# Altium footprint library 液晶_数码管 - 副本.PcbLib: 7 footprints
Each footprint in its own frame and in the unit in brackets; x right, y up, seen from the top. Pads: shape width x height; smd on the part's side, far side on the other; paste and mask are expansions set on the pad; w line width, h text height; cw(c..) or ccw(c..) is an arc to the next point about the centre after c.
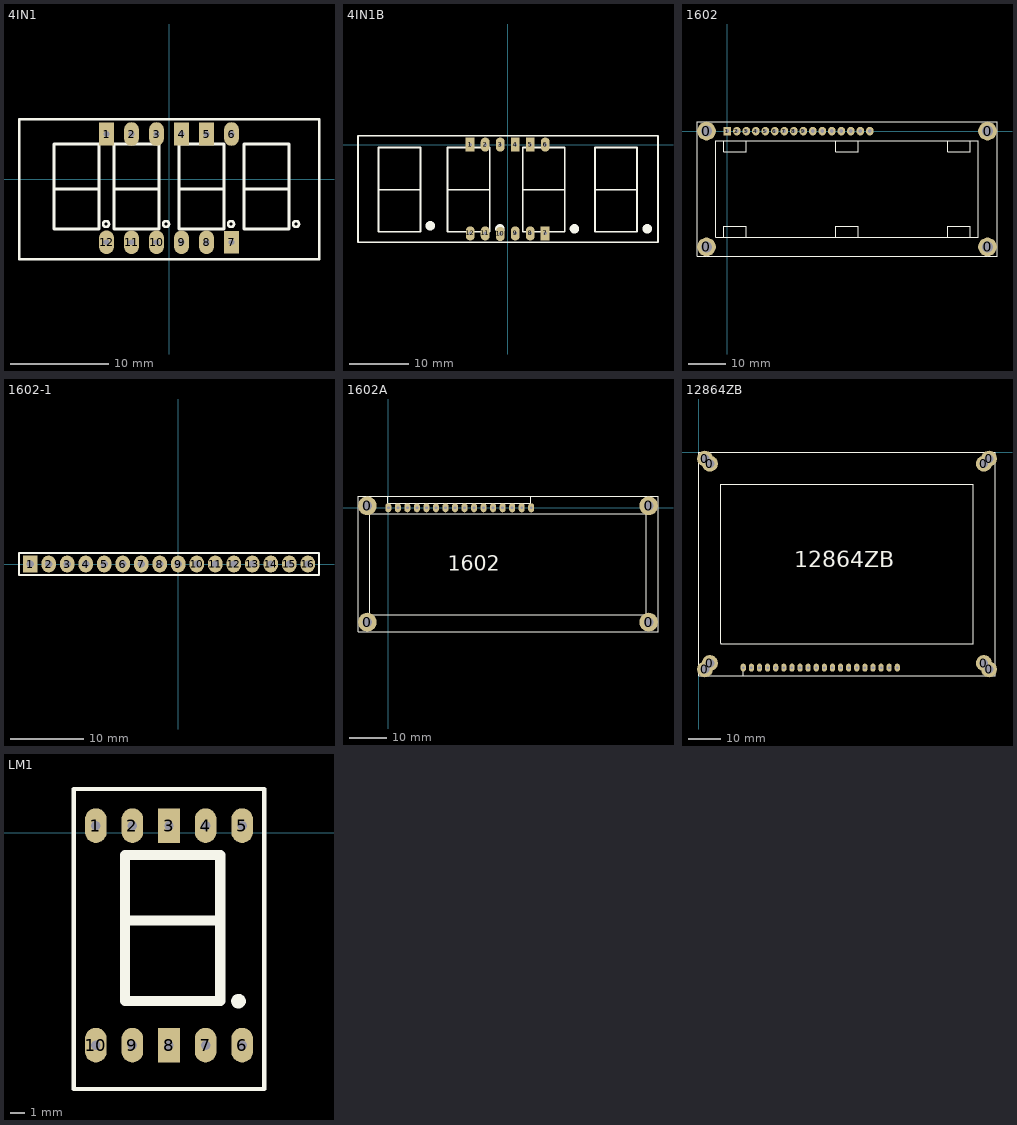
[diagram p0: the footprints below, top view; thin cyan lines are the x and y axes]

## 4IN1 [mm]
pads (12):
  rect 1.5x2.3 hole 0.6: 1(-6.35,4.572) 4(1.27,4.572) 5(3.81,4.572) 7(6.35,-6.428)
  oval 1.5x2.4 hole 0.6: 2(-3.81,4.572) 3(-1.27,4.572) 6(6.35,4.572) 8(3.81,-6.428) 9(1.27,-6.428) 10(-1.27,-6.428) 11(-3.81,-6.428) 12(-6.35,-6.428)
Top Overlay:
  circle w0.254: c12.908,-4.572 r0.3
  circle w0.254: c6.304,-4.572 r0.3
  circle w0.254: c-0.3,-4.572 r0.3
  circle w0.254: c-6.396,-4.572 r0.3
  lines w0.254: -15.24,-8.128 -15.24,6.096 0,6.096 15.24,6.096 15.24,-8.128 -15.24,-8.128
  lines w0.3: -11.684,-1.016 -7.112,-1.016 ; -5.588,-1.016 -1.016,-1.016 ; 1.016,-1.016 5.588,-1.016 ; 7.62,-1.016 12.192,-1.016 ; -11.684,-5.08 -7.112,-5.08 -7.112,3.556 -11.684,3.556 -11.684,-5.08 ; -5.588,-5.08 -1.016,-5.08 -1.016,3.556 -5.588,3.556 -5.588,-5.08 ; 1.016,-5.08 5.588,-5.08 5.588,3.556 1.016,3.556 1.016,-5.08 ; 7.62,-5.08 12.192,-5.08 12.192,3.556 7.62,3.556 7.62,-5.08

## 4IN1B [mm]
pads (12):
  rect 1.5x2.4 hole 0.6: 1(-6.35,0) 4(1.27,0) 5(3.81,0) 7(6.33,-15)
  oval 1.5x2.4 hole 0.6: 2(-3.81,0) 3(-1.27,0) 6(6.35,0) 8(3.81,-15) 9(1.27,-15) 10(-1.27,-15.1) 11(-3.81,-15) 12(-6.33,-15)
Top Overlay:
  circle w0.8: c11.284,-14.224 r0.4
  circle w0.8: c-13.1,-13.716 r0.4
  circle w0.8: c-1.316,-14.224 r0.4
  circle w0.8: c23.576,-14.224 r0.4
  lines w0.254: -25.3,1.475 -25.3,-16.5 25.4,-16.5 25.4,1.5 -25.3,1.5
  lines w0.3: -21.844,-7.62 -14.732,-7.62 ; -10.16,-7.62 -3.048,-7.62 ; 2.54,-7.62 9.652,-7.62 ; 14.732,-7.62 21.844,-7.62 ; -21.844,-14.732 -21.844,-0.508 -14.732,-0.508 -14.732,-14.732 -21.844,-14.732 ; -10.16,-14.732 -10.16,-0.508 -3.048,-0.508 -3.048,-14.732 -10.16,-14.732 ; 2.54,-14.732 2.54,-0.508 9.652,-0.508 9.652,-14.732 2.54,-14.732 ; 14.732,-14.732 14.732,-0.508 21.844,-0.508 21.844,-14.732 14.732,-14.732

## 1602 [mm]
pads (20):
  round 5 hole 3: 0(-5.588,-30.988) 0(-5.588,0) 0(69.596,-30.988) 0(69.596,0)
  rect 2x2.3 hole 1: 1(0,0)
  oval 2x2.3 hole 1: 2(2.54,0) 3(5.08,0) 4(7.62,0) 5(10.16,0) 6(12.7,0) 7(15.24,0) 8(17.78,0) 9(20.32,0) 10(22.86,0) 11(25.4,0) 12(27.94,0) 13(30.48,0) 14(33.02,0) 15(35.56,0) 16(38.1,0)
Top Overlay:
  lines w0.254: -1.016,-28.448 -1.016,-25.4 5.08,-25.4 5.08,-28.448 ; -1.016,-2.54 -1.016,-5.588 5.08,-5.588 5.08,-2.54 ; 28.956,-28.448 28.956,-25.4 35.052,-25.4 35.052,-28.448 ; 28.956,-2.54 28.956,-5.588 35.052,-5.588 35.052,-2.54 ; 58.928,-28.448 58.928,-25.4 65.024,-25.4 65.024,-28.448 ; 58.928,-2.54 58.928,-5.588 65.024,-5.588 65.024,-2.54 ; -8.128,-33.528 -8.128,2.54 72.136,2.54 72.136,-33.528 -8.128,-33.528 ; -3.048,-28.448 -3.048,-2.54 67.056,-2.54 67.056,-28.448 -3.048,-28.448

## 1602-1 [mm]
pads (16):
  rect 2x2.3 hole 1: 1(-20.32,0)
  oval 2x2.3 hole 1: 2(-17.78,0) 3(-15.24,0) 4(-12.7,0) 5(-10.16,0) 6(-7.62,0) 7(-5.08,0) 8(-2.54,0) 9(0,0) 10(2.54,0) 11(5.08,0) 12(7.62,0) 13(10.16,0) 14(12.7,0) 15(15.24,0) 16(17.78,0)
Top Overlay:
  lines w0.254: -21.336,-1.524 18.796,-1.524 19.304,-1.524 19.304,1.524 18.288,1.524 ; -20.828,-1.524 -21.844,-1.524 -21.844,1.524 18.796,1.524

## 1602A [mm]
pads (20):
  round 5 hole 2.5: 0(-5.588,-30.492) 0(-5.588,0.508) 0(69.412,-30.492) 0(69.412,0.508)
  oval 1.6x2.4 hole 0.762: 1(0,0) 2(2.54,0) 3(5.08,0) 4(7.62,0) 5(10.16,0) 6(12.7,0) 7(15.24,0) 8(17.78,0) 9(20.32,0) 10(22.86,0) 11(25.4,0) 12(27.94,0) 13(30.48,0) 14(33.02,0) 15(35.56,0) 16(38.1,0)
Top Overlay:
  lines w0.254: -8.088,-30.492 -5.588,-30.492 -5.588,-32.992 ; -8.088,0.508 -5.588,0.508 -5.588,3.008 ; -4.963,-15.067 -4.963,-28.467 31.887,-28.467 ; -4.963,-14.942 -4.963,-1.542 31.887,-1.542 ; -0.088,3.008 -0.088,1.208 38.012,1.208 38.012,3.008 ; 31.912,-28.467 68.762,-28.467 68.762,-15.067 ; 31.912,-1.542 68.762,-1.542 68.762,-14.942 ; -8.088,-32.992 71.912,-32.992 71.912,3.008 -8.088,3.008 -8.088,-32.992
  text "1602" at 15.9,-16.789 h4

## 12864ZB [mm]
pads (28):
  round 5 hole 2.7: 0(2,-68) 0(2,-2) 0(3.556,-66.04) 0(3.556,-3.556) 0(89.408,-66.04) 0(89.408,-3.556) 0(91,-68) 0(91,-2)
  oval 1.6x2.5 hole 0.8: 1(62.26,-67.46) 2(59.72,-67.46) 3(57.18,-67.46) 4(54.64,-67.46) 5(52.1,-67.46) 6(49.56,-67.46) 7(47.02,-67.46) 8(44.48,-67.46) 9(41.94,-67.46) 10(39.4,-67.46) 11(36.86,-67.46) 12(34.32,-67.46) 13(31.78,-67.46) 14(29.24,-67.46) 15(26.7,-67.46) 16(24.16,-67.46) 17(21.62,-67.46) 18(19.08,-67.46) 19(16.54,-67.46) 20(14,-67.46)
Top Overlay:
  lines w0.127: 7,-60 86,-60 86,-10 7,-10 7,-59.832 7.112,-59.944 ; 14,-70 14,-67.46 ; 0,-70 0,0 93,0 93,-70 0,-70
  text "12864ZB" at 29.972,-36.068 h5

## LM1 [mm]
pads (10):
  oval 1.5x2.4 hole 0.65: 1(12.192,0.508) 2(14.732,0.508) 4(19.812,0.508) 5(22.352,0.508) 6(22.352,-14.732) 7(19.812,-14.732) 9(14.732,-14.732) 10(12.192,-14.732)
  rect 1.5x2.4 hole 0.65: 3(17.272,0.508) 8(17.272,-14.732)
Top Overlay:
  circle w0.508: c22.098,-11.684 r0.254
  lines w0.3: 21.844,3.048 23.876,3.048 23.876,-17.78 23.368,-17.78 10.668,-17.78 10.668,3.048 23.368,3.048
  lines w0.7: 14.224,-6.096 20.828,-6.096 ; 14.224,-11.684 14.224,-1.524 20.828,-1.524 20.828,-11.684 14.224,-11.684